# EAGLE library part STM32F20XR (library Particle)
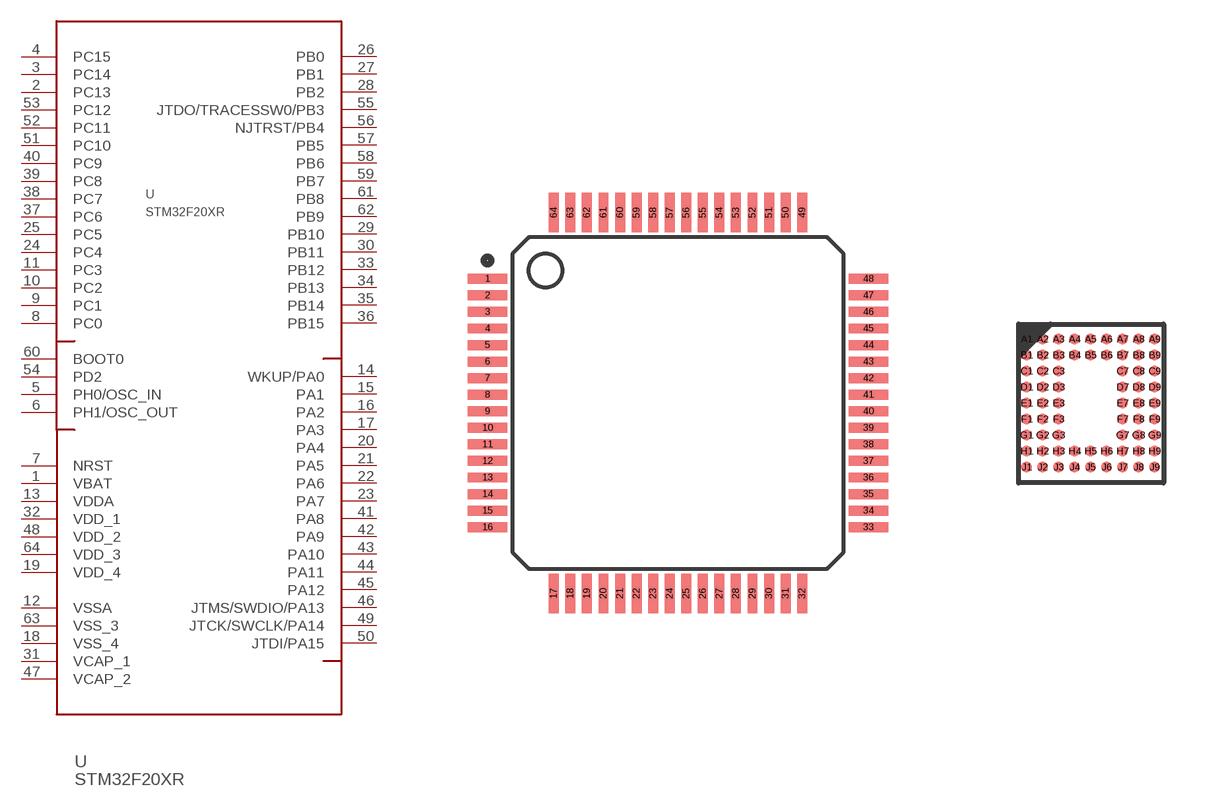
[diagram p28: symbol with the pads of LQFP64; footprints LQFP64, WLCSP64+2]

Designator prefix -

## STM32F20XRLQFP  [LQFP64]
1  VBAT  pwr
2  PC13
3  PC14
4  PC15
5  PH0/OSC_IN
6  PH1/OSC_OUT
7  NRST  pwr
8  PC0
9  PC1
10  PC2
11  PC3
12  VSSA  pwr
13  VDDA  pwr
14  WKUP/PA0
15  PA1
16  PA2
17  PA3
18  VSS_4  pwr
19  VDD_4  pwr
20  PA4
21  PA5
22  PA6
23  PA7
24  PC4
25  PC5
26  PB0
27  PB1
28  PB2
29  PB10
30  PB11
31  VCAP_1  pwr
32  VDD_1  pwr
33  PB12
34  PB13
35  PB14
36  PB15
37  PC6
38  PC7
39  PC8
40  PC9
41  PA8
42  PA9
43  PA10
44  PA11
45  PA12
46  JTMS/SWDIO/PA13
47  VCAP_2  pwr
48  VDD_2  pwr
49  JTCK/SWCLK/PA14
50  JTDI/PA15
51  PC10
52  PC11
53  PC12
54  PD2
55  JTDO/TRACESSW0/PB3
56  NJTRST/PB4
57  PB5
58  PB6
59  PB7
60  BOOT0
61  PB8
62  PB9
63  VSS_3  pwr
64  VDD_3  pwr

## STM32F20XR  [WLCSP64+2]
A1  JTCK/SWCLK/PA14
A2  JTDI/PA15
A3  PC12
A4  JTDO/TRACESSW0/PB3
A5  PB5
A6  PB7
A7  PB9
A8  VDD_1  pwr
A9  VBAT  pwr
B1  VSS_3  pwr
B2  JTMS/SWDIO/PA13
B3  PC10
B4  NJTRST/PB4
B5  PB6
B6  BOOT0
B7  PB8
B8  PC13
B9  PC14
C1  PA12
C2  VCAP_2  pwr
C3  PC11
C7  PD2
C9  PC15
D1  PC9
D2  PA11
D3  PA10
D7  PC2
D8  VSS_4  pwr
D9  VDD_2  pwr
E1  VDD_3  pwr
E2  PA8
E3  PA9
E7  WKUP/PA0
E8  NRST  pwr
E9  PH0/OSC_IN
F1  VSSA  pwr
F2  PC7
F3  PC8
F8  PC1
F9  PH1/OSC_OUT
G1  PB15
G2  PC6
G3  PC5
G7  PA3
G8  PC3
G9  PC0
H1  PB14
H2  PB13
H3  PB10
H4  PC4
H5  PA6
H6  PA5
H8  PA1
J1  PB12
J2  PB11
J3  VCAP_1  pwr
J4  PB2
J5  PB1
J6  PB0
J7  PA7
J8  PA4
J9  PA2

## Footprint LQFP64 (pad centres in mm)
smd 1.2 x 0.3: 1 -5.75,3.75; 2 -5.75,3.25; 3 -5.75,2.75; 4 -5.75,2.25; 5 -5.75,1.75; 6 -5.75,1.25; 7 -5.75,0.75; 8 -5.75,0.25; 9 -5.75,-0.25; 10 -5.75,-0.75; 11 -5.75,-1.25; 12 -5.75,-1.75; 13 -5.75,-2.25; 14 -5.75,-2.75; 15 -5.75,-3.25; 16 -5.75,-3.75; 33 5.75,-3.75; 34 5.75,-3.25; 35 5.75,-2.75; 36 5.75,-2.25; 37 5.75,-1.75; 38 5.75,-1.25; 39 5.75,-0.75; 40 5.75,-0.25; 41 5.75,0.25; 42 5.75,0.75; 43 5.75,1.25; 44 5.75,1.75; 45 5.75,2.25; 46 5.75,2.75; 47 5.75,3.25; 48 5.75,3.75
smd 0.3 x 1.2: 17 -3.75,-5.75; 18 -3.25,-5.75; 19 -2.75,-5.75; 20 -2.25,-5.75; 21 -1.75,-5.75; 22 -1.25,-5.75; 23 -0.75,-5.75; 24 -0.25,-5.75; 25 0.25,-5.75; 26 0.75,-5.75; 27 1.25,-5.75; 28 1.75,-5.75; 29 2.25,-5.75; 30 2.75,-5.75; 31 3.25,-5.75; 32 3.75,-5.75; 49 3.75,5.75; 50 3.25,5.75; 51 2.75,5.75; 52 2.25,5.75; 53 1.75,5.75; 54 1.25,5.75; 55 0.75,5.75; 56 0.25,5.75; 57 -0.25,5.75; 58 -0.75,5.75; 59 -1.25,5.75; 60 -1.75,5.75; 61 -2.25,5.75; 62 -2.75,5.75; 63 -3.25,5.75; 64 -3.75,5.75

## Footprint WLCSP64+2 (pad centres in mm)
WLCSP64+2 3.639 x 3.971 mm, 9 x 9-pin 0.4 mm pitch wafer-level chip-scale package
smd 0.27 x 0.27: A1 -1.609,1.609; A2 -1.209,1.609; A3 -0.809,1.609; A4 -0.409,1.609; A5 -0.009,1.609; A6 0.391,1.609; A7 0.791,1.609; A8 1.191,1.609; A9 1.591,1.609; B1 -1.61,1.209; B2 -1.21,1.209; B3 -0.81,1.209; B4 -0.41,1.209; B5 -0.01,1.209; B6 0.39,1.209; B7 0.79,1.209; B8 1.19,1.209; B9 1.59,1.209; C1 -1.61,0.809; C2 -1.21,0.809; C3 -0.81,0.809; C7 0.79,0.809; C8 1.19,0.809; C9 1.59,0.809; D1 -1.61,0.409; D2 -1.21,0.409; D3 -0.81,0.409; D7 0.79,0.409; D8 1.19,0.409; D9 1.59,0.409; E1 -1.61,0.009; E2 -1.21,0.009; E3 -0.81,0.009; E7 0.79,0.009; E8 1.19,0.009; E9 1.59,0.009; F1 -1.61,-0.391; F2 -1.21,-0.391; F3 -0.81,-0.391; F7 0.79,-0.391; F8 1.19,-0.391; F9 1.59,-0.391; G1 -1.61,-0.791; G2 -1.21,-0.791; G3 -0.81,-0.791; G7 0.79,-0.791; G8 1.19,-0.791; G9 1.59,-0.791; H1 -1.61,-1.191; H2 -1.21,-1.191; H3 -0.81,-1.191; H4 -0.41,-1.191; H5 -0.01,-1.191; H6 0.39,-1.191; H7 0.79,-1.191; H8 1.19,-1.191; H9 1.59,-1.191; J1 -1.61,-1.591; J2 -1.21,-1.591; J3 -0.81,-1.591; J4 -0.41,-1.591; J5 -0.01,-1.591; J6 0.39,-1.591; J7 0.79,-1.591; J8 1.19,-1.591; J9 1.59,-1.591